# Altium schematic symbol library RS-10.SchLib: 1 symbol
Pins are listed as number, name and electrical type; pins without a type are passive.

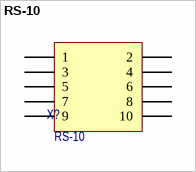
[diagram p0: symbol RS-10]

## RS-10
designator X?  (value not drawn)
RS-10, 10-pin, instrument plug of threaded connection.; Назначение: Connector for output of contacts to the front panel; Потребление, Вт: 0,0; Наименование: РС10
footprint RS-10
pins: 1, 2, 3, 4, 5, 6, 7, 8, 9, 10